# Altium schematic symbol library MC.SchLib: 10 symbols
Pins are listed as number, name and electrical type; pins without a type are passive.

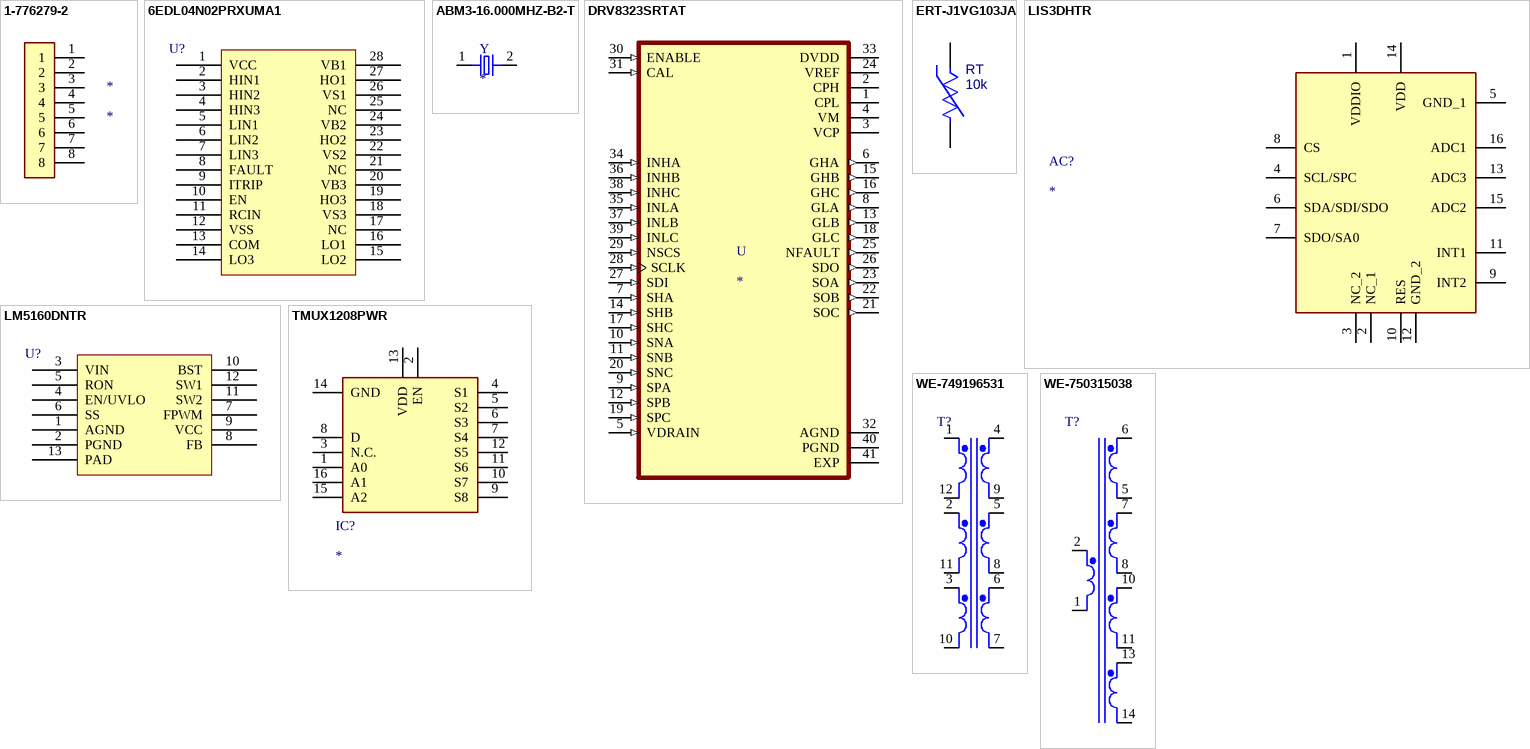
[diagram p0: symbols 1-776279-2 to WE-750315038]

## 1-776279-2
designator *
footprint TE_1-776279-2
pins: 1, 2, 3, 4, 5, 6, 7, 8

## 6EDL04N02PRXUMA1
designator U?
200V Three Phase Gate Driver; Manufacturer: Infineon; Manufacturer Part Number: 6EDL04N02PRXUMA1; Datasheet: https://www.infineon.com/dgdl/6ED2-DB-Rev2_3.pdf?folderId=db3a30431a5c32f2011a77fa27a86cb5&fileId=db3a304336797ff901367c18c18445af; Supplier Part Number: 6EDL04N02PRXUMA1CT-ND; Supplier: Digikey
footprint TSOP65P640X120-28N (TSOP, 28-Leads, Body 9.70x4.40mm, Pitch 0.65mm, IPC Medium Density)
pins: 1 VCC (power), 2 HIN1, 3 HIN2, 4 HIN3, 5 LIN1, 6 LIN2, 7 LIN3, 8 FAULT, 9 ITRIP, 10 EN, 11 RCIN, 12 VSS, 13 COM (power), 14 LO3, 15 LO2, 16 LO1, 17 NC, 18 VS3, 19 HO3, 20 VB3, 21 NC, 22 VS2, 23 HO2, 24 VB2, 25 NC, 26 VS1, 27 HO1, 28 VB1

## ABM3-16.000MHZ-B2-T
designator Y
16MHz Â±20ppm Crystal 18pF 40 Ohms 2-SMD, No Lead; MP: ABM3-16.000MHZ-B2-T; MF: Abracon; Value: *; Package: SMD-2 Abracon; SnapEDA_Link: https://www.snapeda.com/parts/ABM3-16.000MHZ-B2-T/Abracon%20LLC/view-part/55266/?ref=snap; Digi-Key_Part_Number: 535-9103-1-ND; Digi-Key_Purchase_URL: https://www.digikey.com/product-detail/en/abracon-llc/ABM3-16.000MHZ-B2-T/535-9103-1-ND/675620?utm_source=snapeda&utm_medium=aggregator&utm_campaign=symbol
pins: 1, 2

## DRV8323SRTAT
designator U
Multiphase Motor Driver Power MOSFET SPI 40-WQFN _6x6_; MF: Texas Instruments; MP: DRV8323SRTAT; SnapEDA_Link: https://www.snapeda.com/parts/DRV8323SRTAT/Texas%20Instruments/view-part/1675025/?ref=snap; Price: None; Package: WQFN-40 Texas Instruments; Value: *; Availability: Unavailable
footprint QFN50P600X600X80-41N415X415
pins: 1 CPL (power), 2 CPH (power), 3 VCP (power), 4 VM (power), 5 VDRAIN (in), 6 GHA (out), 7 SHA (in), 8 GLA (out), 9 SPA (in), 10 SNA (in), 11 SNB (in), 12 SPB (in), 13 GLB (out), 14 SHB (in), 15 GHB (out), 16 GHC (out), 17 SHC (in), 18 GLC (out), 19 SPC (in), 20 SNC (in), 21 SOC (out), 22 SOB (out), 23 SOA (out), 24 VREF (power), 25 NFAULT (out), 26 SDO (out), 27 SDI (in), 28 SCLK (in), 29 NSCS (in), 30 ENABLE (in), 31 CAL (in), 32 AGND (power), 33 DVDD (power), 34 INHA (in), 35 INLA (in), 36 INHB (in), 37 INLB (in), 38 INHC (in), 39 INLC (in), 40 PGND (power), 41 EXP (power)

## ERT-J1VG103JA
designator RT, comment 10k
NTC Thermistor for Temperature Sensor, SMD 0603, 10kΩ; Resistance Tolerance: 1%; Current Rating: 140uA; Power Rating: 100mW; Resistance: 10kR; Case/Package: 0402; Packaging: Tape and Reel; Radiation Hardening: No; Min Operating Temperature: -40°C; Lead Free: Lead Free; Mount: Surface Mount; RoHS Compliant: Yes; Number of Pins: 2; Package Quantity: 10000; Case Code (Metric): 1005; Max Operating Temperature: 125°C; Max Power Dissipation: 100mW; Series: NCP; Height: 0.5mm; Depth: 0.5mm; Termination: SMD/SMT; Case Code (Imperial): 0603; Tolerance: 1%; Length: 1mm; Parameter 1: *
footprint ERT-J1VG103JA
pins: 1, 2

## LIS3DHTR
designator AC?
Accelerometer; Manufacturer_Name: STMicroelectronics; Manufacturer_Part_Number: LIS3DHTR; Datasheet Link: http://www.st.com/content/ccc/resource/technical/document/datasheet/3c/ae/50/85/d6/b1/46/fe/CD00274221.pdf/files/CD00274221.pdf/jcr:content/translations/en.CD00274221.pdf; Height: 1mm; Mouser Part Number: 511-LIS3DHTR; Mouser Price/Stock: https://www.mouser.co.uk/ProductDetail/STMicroelectronics/LIS3DHTR/?qs=6la6oa3D8xzhXYax3cEo4w%3D%3D; Arrow Part Number: LIS3DHTR; Arrow Price/Stock: https://www.arrow.com/en/products/lis3dhtr/stmicroelectronics
footprint LIS3DHTR
pins: 1 VDDIO (power), 2 NC_1, 3 NC_2, 4 SCL/SPC, 5 GND_1 (power), 6 SDA/SDI/SDO, 7 SDO/SA0, 8 CS (power), 9 INT2 (power), 10 RES, 11 INT1 (power), 12 GND_2 (power), 13 ADC3, 14 VDD (power), 15 ADC2, 16 ADC1

## LM5160DNTR
designator U?
IC REG BUCK FLYBCK ADJ 12WSON; Manufacturer: Texas Instruments; Manufacturer Part Number: LM5160DNTR; Datasheet: https://www.ti.com/lit/ds/symlink/lm5160.pdf?HQS=TI-null-null-digikeymode-df-pf-null-wwe&ts=1605241040592; Supplier Part Number: 296-46122-1-ND; Supplier: Digikey
footprint LM5160DNTR (SON, 12-Leads, Body 4.00x4.00mm, Pitch 0.50mm, Thermal Pad 3.00x2.49mm, IPC Medium Density)
pins: 1 AGND, 2 PGND, 3 VIN (power), 4 EN/UVLO, 5 RON, 6 SS, 7 FPWM, 8 FB, 9 VCC, 10 BST, 11 SW2, 12 SW1, 13 PAD

## TMUX1208PWR
designator IC?
Integrated Circuit; Manufacturer_Name: Texas Instruments; Manufacturer_Part_Number: TMUX1208PWR; Datasheet Link: http://www.ti.com/lit/gpn/tmux1208; Height: 1.2mm; Mouser Part Number: 595-TMUX1208PWR; Mouser Price/Stock: https://www.mouser.co.uk/ProductDetail/Texas-Instruments/TMUX1208PWR/?qs=lc2O%252BfHJPVbYdIGs2%2FdugA%3D%3D; Arrow Part Number: TMUX1208PWR; Arrow Price/Stock: https://www.arrow.com/en/products/tmux1208pwr/texas-instruments
footprint SOP65P640X120-16N
pins: 1 A0, 2 EN, 3 N.C., 4 S1, 5 S2, 6 S3, 7 S4, 8 D, 9 S8, 10 S7, 11 S6, 12 S5, 13 VDD, 14 GND, 15 A2, 16 A1

## WE-749196531
designator T?
TRANSFORMER 9.7UH 1.7A SMD 500VDC; Manufacturer: Würth Elektronik; Manufacturer Part Number: 749196531; Datasheet: https://www.we-online.de/katalog/datasheet/749196531.pdf; Supplier Part Number: 732-2456-1-ND; Supplier: Digikey
footprint WE-749196531
pins: 1 Pri+, 2 Pri+, 3 Pri+, 4 Sec+, 5 Sec+, 6 Sec+, 7 Sec-, 8 Sec-, 9 Sec-, 10 Pri-, 11 Pri-, 12 Pri-

## WE-750315038
designator T?
TRANSFORMER 36.5uH 300mA THT 26VDC; Manufacturer: Würth Elektronik; Manufacturer Part Number: 750315038; Datasheet: https://www.we-online.com/catalog/datasheet/750315038.pdf; Supplier Part Number: 1297-1155-ND; Supplier: Digikey
footprint WE-750315038
pins: 1 Pri-, 2 Pri+, 5 Sec-, 6 Sec+, 7 Sec+, 8 Sec-, 10 Sec+, 11 Sec-, 13 Sec+, 14 Sec-